# Altium schematic symbol library lib.SchLib: 17 symbols
Pins are listed as number, name and electrical type; pins without a type are passive.

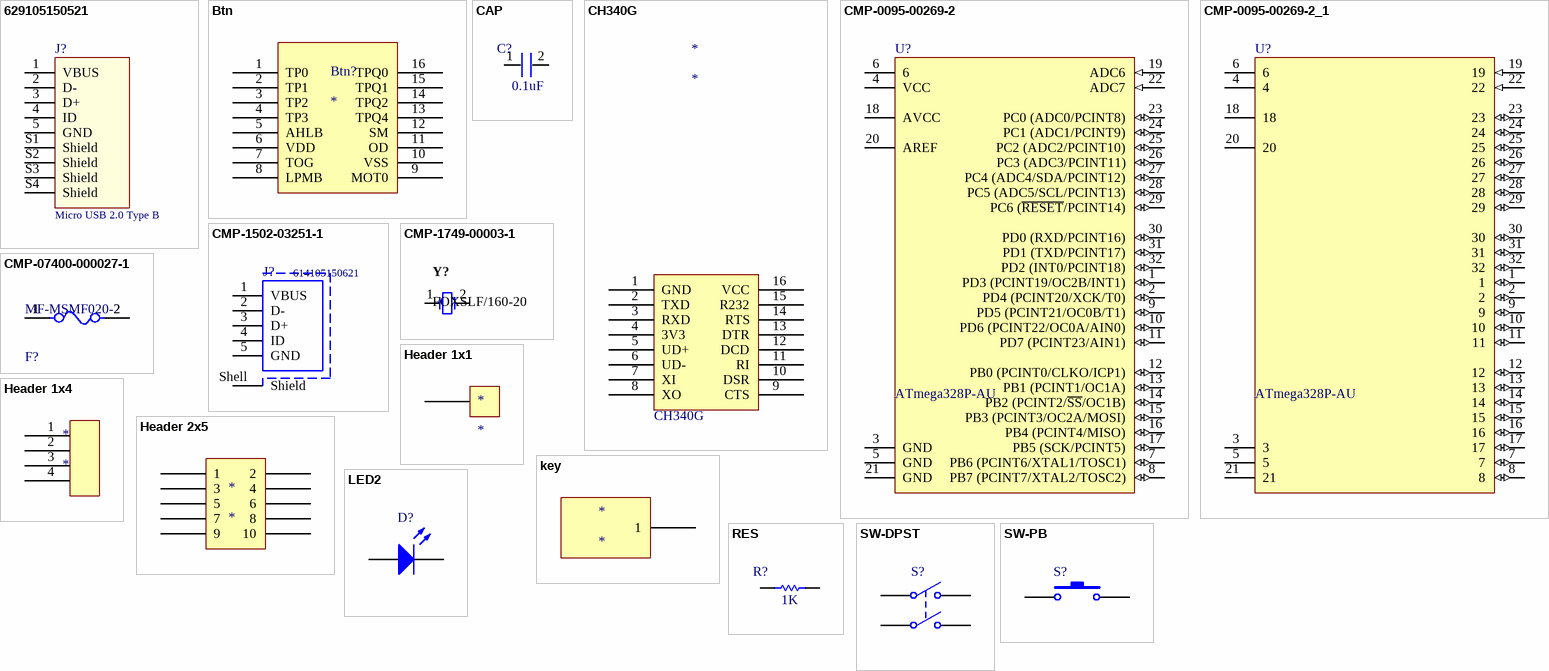
[diagram p0: symbols 629105150521 to SW-PB]

## 629105150521
designator J?, comment Micro USB 2.0 Type B
Micro USB 2.0 Type B Horizontal SMT 5 Contacts High Current WR-COM; Part Number: 629105150521; Rated Current: 3 A; Gender: Female; ComponentLink1Description: Manufacturer; ComponentLink1URL: http://www.we-online.de; ComponentLink2Description: Datasheet; ComponentLink2URL: http://katalog.we-online.de/em/datasheet/629105150521.pdf; Published Date: May 2018; Publisher: Wurth Elektronik; Orientation: Horizontal; Interface Type: Micro USB 2.0 Type B; Operating Temperature: -40 to 85 degC; Mounting Technology: SMT; Packaging: Tape and Reel
footprint 629105150521 (Micro USB 2.0 SMT Type B Horizontal 5 Contacts High Current)
pins: 1 VBUS, 2 D-, 3 D+, 4 ID, 5 GND, S1 Shield, S2 Shield, S3 Shield, S4 Shield

## Btn
designator Btn?
footprint SOP64P600X175-16N (SOP, 16-Leads, Body 8.65x3.90mm, Pitch 0.64mm, IPC Medium Density)
pins: 1 TP0, 2 TP1, 3 TP2, 4 TP3, 5 AHLB, 6 VDD, 7 TOG, 8 LPMB, 9 MOT0, 10 VSS, 11 OD, 12 SM, 13 TPQ4, 14 TPQ2, 15 TPQ1, 16 TPQ0

## CAP
designator C?  value 0.1uF  (hidden comment: *)
Capacitor
footprint 0805
pins: 1, 2

## CH340G
designator *
footprint SOIC127P600X170-16N (SOIC, 16-Leads, Body 8.6x4.0mm (max), Pitch 1.27mm, IPC Medium Density)
pins: 1 GND, 2 TXD, 3 RXD, 4 3V3, 5 UD+, 6 UD-, 7 XI, 8 XO, 9 CTS, 10 DSR, 11 RI, 12 DCD, 13 DTR, 14 RTS, 15 R232, 16 VCC

## CMP-0095-00269-2
designator U?, comment ATmega328P-AU
8-bit AVR Microcontroller, 32KB Flash, 1KB EEPROM, 2KB SRAM, 32-pin TQFP, Industrial Grade (-40°C to 85°C); PackageDescription: 32-Lead, 7x7x1.0 mm Body, 0.8mm Lead Pitch, Thin Profile Plastic Quad Flat Package (TQFP); DatasheetVersion: revD, May-2011; RevisionNote: DatasheetVersion & PackageVersion updated. URLs added.; ComponentLink1URL: http://www.atmel.com/; ComponentLink2Description: ATmega48A/48PA/88A/88PA/168A/168PA/328/328P Datasheet; Code_JEDEC: MS-026-ABA; ComponentLink1Description: Manufacturer URL; PackageReference: 32A; ComponentLink3Description: ATmega48A/48PA/88A/88PA/168A/168PA/328/328P Summary; ComponentLink2URL: http://www.atmel.com/dyn/resources/prod_documents/doc8271.pdf; PackageVersion: revC, Oct-2010; ComponentLink3URL: http://www.atmel.com/dyn/resources/prod_documents/8271S.pdf
footprint 32A_L - duplicate (Thin QFP, 32-Leads, Body 7x7mm, Pitch 0.8mm, IPC High Density)
pins: 1 PD3 (PCINT19/OC2B/INT1) (io), 2 PD4 (PCINT20/XCK/T0) (io), 3 GND (power), 4 VCC (power), 5 GND (power), 6 (power), 7 PB6 (PCINT6/XTAL1/TOSC1) (io), 8 PB7 (PCINT7/XTAL2/TOSC2) (io), 9 PD5 (PCINT21/OC0B/T1) (io), 10 PD6 (PCINT22/OC0A/AIN0) (io), 11 PD7 (PCINT23/AIN1) (io), 12 PB0 (PCINT0/CLKO/ICP1) (io), 13 PB1 (PCINT1/OC1A) (io), 14 PB2 (PCINT2/~{SS}/OC1B) (io), 15 PB3 (PCINT3/OC2A/MOSI) (io), 16 PB4 (PCINT4/MISO) (io), 17 PB5 (SCK/PCINT5) (io), 18 AVCC (power), 19 ADC6 (in), 20 AREF, 21 GND (power), 22 ADC7 (in), 23 PC0 (ADC0/PCINT8) (io), 24 PC1 (ADC1/PCINT9) (io), 25 PC2 (ADC2/PCINT10) (io), 26 PC3 (ADC3/PCINT11) (io), 27 PC4 (ADC4/SDA/PCINT12) (io), 28 PC5 (ADC5/SCL/PCINT13) (io), 29 PC6 (~{RESET}/PCINT14) (io), 30 PD0 (RXD/PCINT16) (io), 31 PD1 (TXD/PCINT17) (io), 32 PD2 (INT0/PCINT18) (io)

## CMP-0095-00269-2_1
designator U?, comment ATmega328P-AU
8-bit AVR Microcontroller, 32KB Flash, 1KB EEPROM, 2KB SRAM, 32-pin TQFP, Industrial Grade (-40°C to 85°C); PackageDescription: 32-Lead, 7x7x1.0 mm Body, 0.8mm Lead Pitch, Thin Profile Plastic Quad Flat Package (TQFP); DatasheetVersion: revD, May-2011; RevisionNote: DatasheetVersion & PackageVersion updated. URLs added.; ComponentLink1URL: http://www.atmel.com/; ComponentLink2Description: ATmega48A/48PA/88A/88PA/168A/168PA/328/328P Datasheet; Code_JEDEC: MS-026-ABA; ComponentLink1Description: Manufacturer URL; PackageReference: 32A; ComponentLink3Description: ATmega48A/48PA/88A/88PA/168A/168PA/328/328P Summary; ComponentLink2URL: http://www.atmel.com/dyn/resources/prod_documents/doc8271.pdf; PackageVersion: revC, Oct-2010; ComponentLink3URL: http://www.atmel.com/dyn/resources/prod_documents/8271S.pdf
footprint 32A_L - duplicate (Thin QFP, 32-Leads, Body 7x7mm, Pitch 0.8mm, IPC High Density)
pins: 1 (io), 2 (io), 3 (power), 4 (power), 5 (power), 6 (power), 7 (io), 8 (io), 9 (io), 10 (io), 11 (io), 12 (io), 13 (io), 14 (io), 15 (io), 16 (io), 17 (io), 18 (power), 19 (in), 20, 21 (power), 22 (in), 23 (io), 24 (io), 25 (io), 26 (io), 27 (io), 28 (io), 29 (io), 30 (io), 31 (io), 32 (io)

## CMP-1502-03251-1
designator J?, comment 614105150621
Micro USB 2.0 Type AB Receptacle WR-COM, Vertical, THT; Manufacturer: Wurth Elektronik; Rated Current: 1.8A; Working Voltage: 30VAC; Contact Resistance: 30mOhm; Manufacturer URL: http://www.we-online.de; Orientation: Vertical; Packaging: TapeandReel; Package Reference: 614105150621; Part Number: 614105150621; Operating Temperature: -40to85degC; Connector Type: MicroUSB2.0TypeAB; Gender: Receptacle; Mounting Technology: THT; Datasheet URL: https://katalog.we-online.de/em/datasheet/614105150621.pdf; Publisher: WurthElektronik
footprint 629105150921 (Micro USB 2.0 Type AB Horizontal)
pins: 1 VBUS, 2 D-, 3 D+, 4 ID, 5 GND, Shell Shield

## CMP-1749-00003-1
designator Y?, comment FOXSLF/160-20
Resistance Weld Thru-Hole Crystal, 16 MHz, -20 to 70 degC, 2-Pin THD, RoHS, Bulk; Voltage Rating: 250 V; Tolerance: 1%; Resistance: 221 kohm; Case\Package: Axial; Power Rating: 250 mW; RoHSCompliant: true; Package Quantity: 200; Packaging: Bulk; Min Operating Temperature: -55 degC; DatasheetVersion: Mar-15; ComponentLink1URL: http://www.foxonline.com/; Max Operating Temperature: 155 degC; PackageReference: FOXSLF160-20; Mount: Through Hole; PackageDescription: 2-Pin Through Hole Device, Body 11.35 x 4.65 mm; ComponentLink1Description: Manufacturer URL; ComponentLink2URL: http://www.foxonline.com/pdfs/hc49slf.pdf; ComponentLink2Description: Datasheet; Length: 0.248 inch
footprint FOX-FOXSLF160-20 (THD, 2-Leads, Body 11.35x4.65mm)
pins: 1, 2

## CMP-07400-000027-1
designator F?, comment MF-MSMF020-2
PTC RESET FUSE 30V 200MA 1812; Manufacturer: Bourns; Hold Current: 0.2A; Current Rating: 80A; Trip Time: 0.06s; Resistance: 0.4-6Ω; Automotive Grade: Grade 3; Trip Current: 0.4A; Value: 0.4-6Ω; RoHS: TRUE; Digikey Description: PTC RESET FUSE 30V 200MA 1812; Device Class L3: unset; ComponentLink2Description: Datasheet; Manufacturer Part Number: MF-MSMF020-2; Temperature Range Low: -40°C; Automotive: Yes; Package: MF-MSMF020-2; ComponentLink2URL: https://www.bourns.com/docs/Product-Datasheets/mfmsmf.pdf; Lead Free: Yes; Temperature: -40°C to +85°C; Temperature Range High: +85°C; Device Class L1: Circuit Protection; Octopart: https://octopart.com/mf-msmf020-2-bourns-19289; Voltage Rating: 30V; Height: 1.1mm; Device Class L2: PTC Resettable Fuses; Category: Fuse; Mouser Description: Resettable Fuses - PPTC 0.2A 30V 0.40ohm
footprint FP-MF-MSMF020-2-MFG
pins: 1, 2

## Header 1x1
designator *
footprint Header 1x1 long (2.54mm)
pins: 1

## Header 1x4
designator *
footprint Header 1x4 male (2.54mm)
pins: 1, 2, 3, 4

## Header 2x5
designator *
footprint Header 2x5 male
pins: 1, 2, 3, 4, 5, 6, 7, 8, 9, 10

## key
designator *
footprint KEY
pins: 1

## LED2
designator D?
Typical RED, GREEN, YELLOW, AMBER GaAs LED; Published: 8-Jun-2000; LatestRevisionDate: 17-Jul-2002; LatestRevisionNote: Re-released for DXP Platform.; PackageVersion: Feb-2002; PackageReference: 3.2X1.6X1.1; Publisher: Altium Limited; PackageDescription: SM LED; 2 Flat Leads
footprint 3.2X1.6X1.1 (SMT LED; 2 Flat Leads)
pins: 1 A, 2 K

## RES
designator R?  Vaule: 1K  (hidden comment: *)
Resistor
footprint 0805
pins: 1, 2

## SW-DPST
designator S?
Double-Pole, Single-Throw Switch; Published: 24-Mar-1999; LatestRevisionDate: 17-Jul-2002; LatestRevisionNote: Re-released for DXP Platform.; PackageReference: DPST-4; Publisher: Altium Limited; PackageDescription: Switch; 4 Leads
footprint DPST-4 (Switch; 4 Leads)
pins: 1 COMMON1, 2 NO1, 3 COMMON2, 4 NO2

## SW-PB
designator S?
Switch; Published: 24-Mar-1999; LatestRevisionDate: 17-Jul-2002; LatestRevisionNote: Re-released for DXP Platform.; PackageReference: SPST-2; Publisher: Altium Limited; PackageDescription: Switch; 2 Leads
footprint SPST-2 (Switch; 2 Leads)
pins: 1, 2